# Altium integrated library Scope_evtA.IntLib: 38 symbols
Pins are listed as number, name and electrical type; pins without a type are passive.

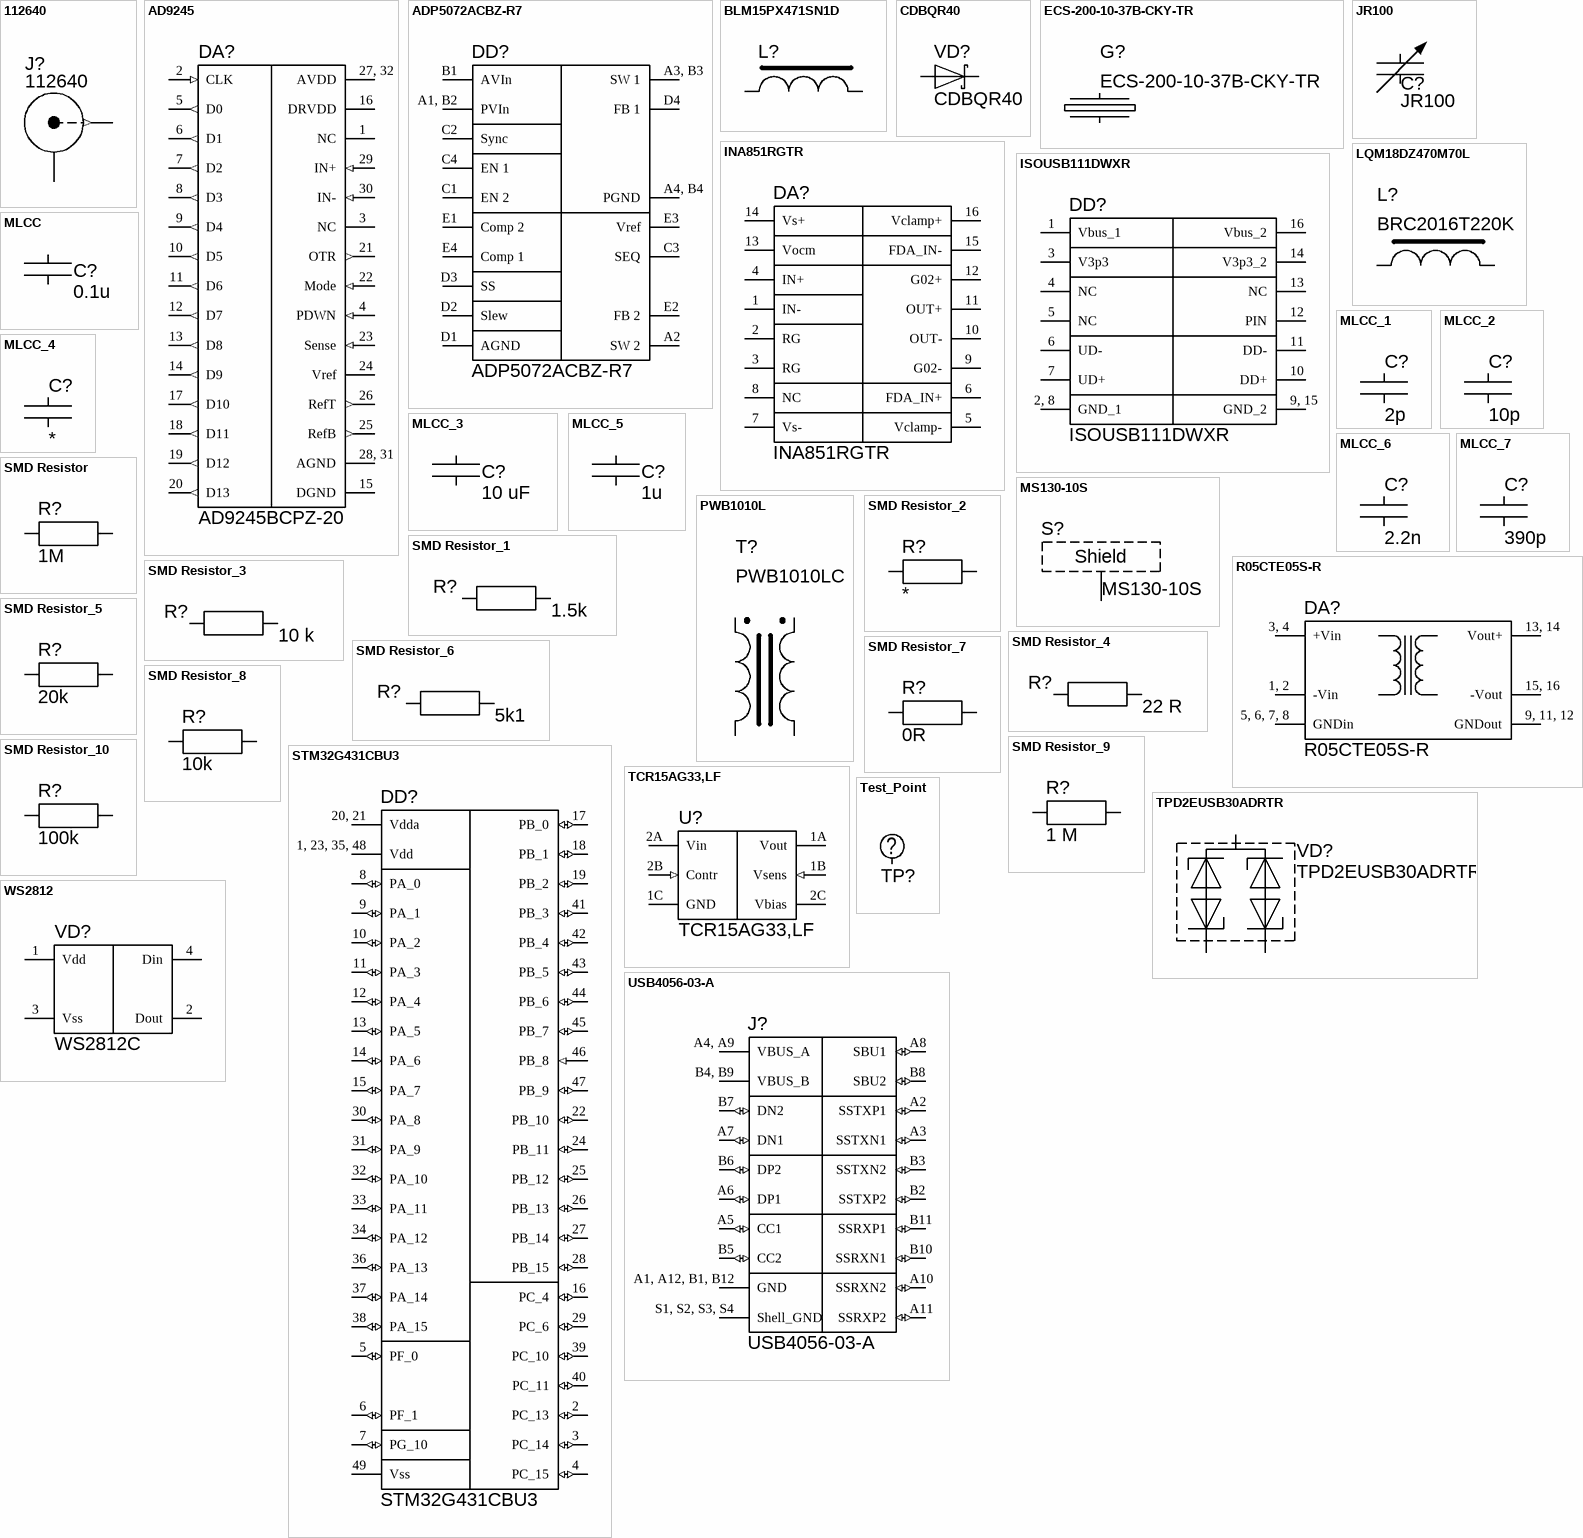
[diagram p0: symbols 112640 to WS2812]

## 112640
designator J?
RF Connectors / Coaxial Connectors BNC PCB END LAUNCH 50 OHM RND BODY; Manufacturer: Amphenol; Value: 50 Ohms; ComponentLink1Description: Datasheet; ComponentLink1URL: https://eu.mouser.com/datasheet/2/18/1/amph_s_a0003617014_1-2261107.pdf; ComponentLink2Description: Link; ComponentLink2URL: https://eu.mouser.com/ProductDetail/Amphenol-RF/112640?qs=g6wJ%252BjiQWOckvE%2FP9L4wAw%3D%3D; P/N: 112640; Case: BNC; Component Type: Jack (Socket)
footprint 112640
pins: 1 In (out), 2 Shield (power)

## AD9245
designator DA?, comment AD9245BCPZ-20
Analog to Digital Converters - ADC 14-Bit, 20 MSPS/40 MSPS/65 MSPS/80 MSPS 3 V A/D Converter; Manufacturer: Analog Devices Inc.; Value: 14 bit,  20 MS/s; ComponentLink1Description: Datasheet; ComponentLink1URL: https://eu.mouser.com/datasheet/2/609/AD9245-3134626.pdf; ComponentLink2Description: Link; ComponentLink2URL: https://eu.mouser.com/ProductDetail/Analog-Devices/AD9245BCPZ-20?qs=%2FtpEQrCGXCyn%2FB%2F5xLQAJw%3D%3D; P/N: AD9245BCPZ-20; Case: LFCSP-32; Component Type: Analog to Digital Converters - ADC
footprint LFCSP-32_AD9245
pins: 1 NC, 2 CLK (in), 3 NC, 4 PDWN (in), 5 D0 (out), 6 D1 (out), 7 D2 (out), 8 D3 (out), 9 D4 (out), 10 D5 (out), 11 D6 (out), 12 D7 (out), 13 D8 (out), 14 D9 (out), 15 DGND (power), 16 DRVDD (power), 17 D10 (out), 18 D11 (out), 19 D12 (out), 20 D13 (out), 21 OTR (out), 22 Mode (in), 23 Sense (in), 24 Vref (power), 25 RefB (out), 26 RefT (out), 27, 32 AVDD (power), 28, 31 AGND (power), 29 IN+ (in), 30 IN- (in)

## ADP5072ACBZ-R7
designator DD?
Switching Voltage Regulators 1 A/0.6 A DC-to-DC Switching Regulator with Independent Positive and Negative Outputs; Manufacturer: Analog Devices Inc.; Value: - 30 V to 35 V; ComponentLink1Description: Datasheet; ComponentLink1URL: https://eu.mouser.com/datasheet/2/609/adp5072-3121366.pdf; ComponentLink2Description: Link; ComponentLink2URL: https://eu.mouser.com/ProductDetail/Analog-Devices/ADP5072ACBZ-R7?qs=w%2Fv1CP2dgqoekXcyqSGVnQ%3D%3D; P/N: ADP5072ACBZ-R7; Case: WLCSP-20; Component Type: Switching Voltage Regulators
footprint WLCSP-20
pins: A1, B2 PVIn, A2 SW 2, A3, B3 SW 1, A4, B4 PGND, B1 AVIn, C1 EN 2, C2 Sync, C3 SEQ, C4 EN 1, D1 AGND, D2 Slew, D3 SS, D4 FB 1, E1 Comp 2, E2 FB 2, E3 Vref, E4 Comp 1

## BLM15PX471SN1D
designator L?  (value not drawn)
Ferrite Beads 470 OHM 25% Alternate Sizing Guide Below; Manufacturer: Murata; Value: 470 Ohms, 1A; ComponentLink1Description: Datasheet; ComponentLink1URL: https://eu.mouser.com/datasheet/2/281/ENFA0018-1915754.pdf; ComponentLink2Description: Link; ComponentLink2URL: https://eu.mouser.com/ProductDetail/Murata-Electronics/BLM15PX471SN1D?qs=eTNEoJdcnEJgxrnv%252BsVZMw%3D%3D; P/N: BLM15PX471SN1D; Case: 0402; Component Type: Ferrite Beads
footprint R0402
pins: 1, 2

## CDBQR40
designator VD?
Schottky Diodes & Rectifiers 200mA 40V DFN Sm. Sgnl. Schottky; Manufacturer: Comchip Technology; Value: 200mA, 40V; ComponentLink1Description: Datasheet; ComponentLink1URL: https://eu.mouser.com/datasheet/2/80/CDBQR40_HF_RevC811666-2488328.pdf; ComponentLink2Description: Link; ComponentLink2URL: https://eu.mouser.com/ProductDetail/Comchip-Technology/CDBQR40?qs=tw%252BuQ%2FB6PO2qnzfzuJamKw%3D%3D; P/N: CDBQR40; Case: 0402; Component Type: Schottky Diodes & Rectifiers
footprint 0402_VD
pins: 1 Out, 2 IN

## ECS-200-10-37B-CKY-TR
designator G?
Crystals 20MHz ESR 70 10pF-30C +85C; Manufacturer: ECS; Value: 20 MHz,  10 PPM; ComponentLink1Description: Datasheet; ComponentLink1URL: https://eu.mouser.com/datasheet/2/122/ECX_1637B-1633271.pdf; ComponentLink2Description: Link; ComponentLink2URL: https://eu.mouser.com/ProductDetail/ECS/ECS-200-10-37B-CKY-TR?qs=l7cgNqFNU1iRTZcEfH9KUQ%3D%3D; P/N: ECS-200-10-37B-CKY-TR; Case: 2 mm x 1.6 mm; Component Type: Crystals
footprint 2 mm x 1.6 mm (ECS-200-10-37B-CKY-TR)
pins: 1, 3

## INA851RGTR
designator DA?
Instrumentation Amplifiers Low-noise (3.2 nV/vHz) high-speed (22 MHz) fully-differential instrumentation amp with OVP (+/-40 V) 16-VQFN -40 to 125; Manufacturer: Texas Instruments; Value: 3.2 nV/vHz. +-40V; ComponentLink1Description: Datasheet; ComponentLink1URL: https://www.ti.com/lit/ds/symlink/ina851.pdf?ts=1707581186124&ref_url=https%253A%252F%252Feu.mouser.com%252F; ComponentLink2Description: Link; ComponentLink2URL: https://eu.mouser.com/ProductDetail/Texas-Instruments/INA851RGTR?qs=Y0Uzf4wQF3kbGQkgMC0HWQ%3D%3D; P/N: INA851RGTR; Case: VQFN-16; Component Type: Instrumentation Amplifiers
footprint VQFN_16_INA851
pins: 1 IN-, 2 RG, 3 RG, 4 IN+, 5 Vclamp-, 6 FDA_IN+, 7 Vs-, 8 NC, 9 G02-, 10 OUT-, 11 OUT+, 12 G02+, 13 Vocm, 14 Vs+, 15 FDA_IN-, 16 Vclamp+

## ISOUSB111DWXR
designator DD?
USB Interface IC Low-emission isolated USB repeater supporting low and full speed 16-SSOP -40 to 125; Manufacturer: Texas Instruments; Value: USB 2.0; ComponentLink1Description: Datasheet; ComponentLink1URL: https://www.ti.com/lit/ds/symlink/isousb111.pdf?ts=1708034758891&ref_url=https%253A%252F%252Fwww.ti.com%252Fproduct%252FISOUSB111; ComponentLink2Description: Link; ComponentLink2URL: https://eu.mouser.com/ProductDetail/Texas-Instruments/ISOUSB111DWXR?qs=Y0Uzf4wQF3msEozH7EwD3g%3D%3D; P/N: ISOUSB111DWXR; Case: SSOP-16; Component Type: USB Interface IC
footprint SSOP-16
pins: 1 Vbus_1, 2, 8 GND_1, 3 V3p3, 4 NC, 5 NC, 6 UD-, 7 UD+, 9, 15 GND_2, 10 DD+, 11 DD-, 12 PIN, 13 NC, 14 V3p3_2, 16 Vbus_2

## JR100
designator C?
Trimmer/Variable Capacitors 2.0 - 10pF 100volts; Manufacturer: Knowles; Value: 2 pF to 10 pF; ComponentLink1Description: Datasheet; ComponentLink1URL: https://eu.mouser.com/datasheet/2/218/Knowles_Trimmers_Catalogue_web-1774092.pdf; ComponentLink2Description: Link; ComponentLink2URL: https://eu.mouser.com/ProductDetail/Knowles-Voltronics/JR100?qs=Xqu1B%2Fs4Uoag80ukOW5org%3D%3D; P/N: JR100; Case: JR; Component Type: Trimmer/Variable Capacitors
footprint Trimmer Capacitors
pins: 1, 2

## LQM18DZ470M70L
designator L?, comment BRC2016T220K
Power Inductors - SMD 0603 47uH 20% 180mA 3.32ohm AEC-Q200; ComponentLink1Description: Datasheet; ComponentLink1URL: https://eu.mouser.com/datasheet/2/281/1/JELF243B_9128-3158890.pdf; ComponentLink2Description: Link; ComponentLink2URL: https://eu.mouser.com/ProductDetail/Murata-Electronics/LQM18DZ470M70L?qs=aP1CjGhiNiGa4GC35xm0xg%3D%3D; P/N: BRC2016T220K; Case: 0603; Component Type: Power Inductors - SMD
footprint L0603
pins: 1, 2

## MLCC
designator C?, comment 0.1u
Multilayer Ceramic Capacitors MLCC - SMD/SMT 0.1 uF 50 VDC 20% 0402 X6S; Manufacturer: Murata; P/N: GRM155C81H104ME14D; Component Type: MLCC; Case: 0402; ComponentLink1Description: Link; ComponentLink1URL: *; ComponentLink2Description: Datasheet; ComponentLink2URL: *; Value: 0.1u
footprint C0603 (*)
footprint C0402 (Chip Capacitor, Body 1.0x0.5mm, IPC High Density)
pins: 1, 2

## MLCC_1
designator C?, comment 2p
Multilayer Ceramic Capacitors MLCC - SMD/SMT 50V 10pF X7R 0402 10%; Manufacturer: KEMET; P/N: C0402C100K5RACTU; Component Type: MLCC; Case: 0402; ComponentLink1Description: Link; ComponentLink1URL: https://eu.mouser.com/ProductDetail/KEMET/C0402C100K5RACTU?qs=Mv7BduZupUgEdPvwNAxLRQ%3D%3D; ComponentLink2Description: Datasheet; ComponentLink2URL: https://eu.mouser.com/datasheet/2/447/KEM_C1002_X7R_SMD-3316098.pdf; Value: 2p
footprint C0603 (*)
footprint C0402 (Chip Capacitor, Body 1.0x0.5mm, IPC High Density)
pins: 1, 2

## MLCC_2
designator C?, comment 10p
Multilayer Ceramic Capacitors MLCC - SMD/SMT 50V 10pF X7R 0402 10%; Manufacturer: KEMET; P/N: C0402C100K5RACTU; Component Type: MLCC; Case: 0402; ComponentLink1Description: Link; ComponentLink1URL: https://eu.mouser.com/ProductDetail/KEMET/C0402C100K5RACTU?qs=Mv7BduZupUgEdPvwNAxLRQ%3D%3D; ComponentLink2Description: Datasheet; ComponentLink2URL: https://eu.mouser.com/datasheet/2/447/KEM_C1002_X7R_SMD-3316098.pdf; Value: 10p
footprint C0603 (*)
footprint C0402 (Chip Capacitor, Body 1.0x0.5mm, IPC High Density)
pins: 1, 2

## MLCC_3
designator C?, comment 10 uF
Multilayer Ceramic Capacitors MLCC - SMD/SMT 10 uF 10 VDC 20% 0402 X5R; Manufacturer: Murata; P/N: GRM155R61A106ME11D; Component Type: MLCC; Case: 0402; ComponentLink1Description: Link; ComponentLink1URL: https://eu.mouser.com/ProductDetail/Murata-Electronics/GRM155R61A106ME11D?qs=xZ%2FP%252Ba9zWqZMJSi57Q8OyA%3D%3D; ComponentLink2Description: Datasheet; ComponentLink2URL: https://eu.mouser.com/datasheet/2/281/1/GRM155R61A106ME11_01A-1983731.pdf; Value: 10 uF
footprint C0603 (*)
footprint C0402 (Chip Capacitor, Body 1.0x0.5mm, IPC High Density)
pins: 1, 2

## MLCC_4
designator C?
Cercap smd; P/N: *; Component Type: *; Manufacturer: *; Case: *; ComponentLink1Description: Link; ComponentLink1URL: *; ComponentLink2Description: Datasheet; ComponentLink2URL: *; Value: *
footprint C0603 (*)
footprint C0402 (Chip Capacitor, Body 1.0x0.5mm, IPC High Density)
pins: 1, 2

## MLCC_5
designator C?, comment 1u
Multilayer Ceramic Capacitors MLCC - SMD/SMT 1 uF 10 VDC 20% 0402 X7S AEC-Q200; Manufacturer: Murata; P/N: GCM155C71A105ME38D; Component Type: MLCC; Case: 0402; ComponentLink1Description: Link; ComponentLink1URL: https://eu.mouser.com/ProductDetail/Murata-Electronics/GCM155C71A105ME38D?qs=QzBtWTOodeV5ddl%2FvWs3LA%3D%3D; ComponentLink2Description: Datasheet; ComponentLink2URL: https://eu.mouser.com/datasheet/2/281/1/GCM155C71A105ME38_01A-3142248.pdf; Value: 1u
footprint C0603 (*)
footprint C0402 (Chip Capacitor, Body 1.0x0.5mm, IPC High Density)
pins: 1, 2

## MLCC_6
designator C?, comment 2.2n
Multilayer Ceramic Capacitors MLCC - SMD/SMT 0.1 uF 50 VDC 20% 0402 X6S; Manufacturer: Murata; P/N: GRM155C81H104ME14D; Component Type: MLCC; Case: 0402; ComponentLink1Description: Link; ComponentLink1URL: *; ComponentLink2Description: Datasheet; ComponentLink2URL: *; Value: 2.2n
footprint C0603 (*)
footprint C0402 (Chip Capacitor, Body 1.0x0.5mm, IPC High Density)
pins: 1, 2

## MLCC_7
designator C?, comment 390p
Multilayer Ceramic Capacitors MLCC - SMD/SMT 0.1 uF 50 VDC 20% 0402 X6S; Manufacturer: Murata; P/N: GRM155C81H104ME14D; Component Type: MLCC; Case: 0402; ComponentLink1Description: Link; ComponentLink1URL: *; ComponentLink2Description: Datasheet; ComponentLink2URL: *; Value: 390p
footprint C0603 (*)
footprint C0402 (Chip Capacitor, Body 1.0x0.5mm, IPC High Density)
pins: 1, 2

## MS130-10S
designator S?
EMI Gaskets, Sheets, Absorbers & Shielding 13 x 13 x 5mm One-piece Drawn-Seamless RF Shield/EMI Shield (CRS); Manufacturer: Masach Tech; ComponentLink1Description: Datasheet; ComponentLink1URL: https://api.masach.com/media/catalog/product/file/MS128-10.pdf; ComponentLink2Description: Link; ComponentLink2URL: https://eu.mouser.com/ProductDetail/Masach/MS130-10S?qs=pUKx8fyJudDNyG0ZPUxt%2FA%3D%3D; Value: 13 x 13 x 5mm; P/N: MS130-10S; Case: 13 x 13 x 5mm; Component Type: Shields
footprint 13_13_5mm
pins: 1
text: Shield

## PWB1010L
designator T?, comment PWB1010LC
Audio Transformers / Signal Transformers PWB Wideband RF 1:1 0.0035-125 MHz; Manufacturer: Coilcraft; Value: 3.5 kHz to 125 MHz; ComponentLink1Description: Datasheet; ComponentLink1URL: https://eu.mouser.com/datasheet/2/597/pwb-463529.pdf; ComponentLink2Description: Link; ComponentLink2URL: https://eu.mouser.com/ProductDetail/Coilcraft/PWB1010LC?qs=ZYnrCdKdyeesEVMGru6ImA%3D%3D; P/N: PWB1010LC
footprint PWB1010
pins: 1, 3, 4, 6

## R05CTE05S-R
designator DA?
Isolated DC/DC Converters - SMD 1W 4.5-5.5Vin 5.0Vout 200mA Reel; Manufacturer: RECOM; Value: 1 W, 5V; ComponentLink1Description: Datasheet; ComponentLink1URL: https://eu.mouser.com/datasheet/2/468/RxxCTExxS-3179767.pdf; ComponentLink2Description: Link; ComponentLink2URL: https://eu.mouser.com/ProductDetail/RECOM-Power/R05CTE05S-R?qs=7D1LtPJG0i0SUCKLd%252BnSSQ%3D%3D; P/N: R05CTE05S-R; Case: SOIC-16; Component Type: Isolated DC/DC Converters - SMD
footprint SOIC-16
pins: 1, 2 -Vin, 3, 4 +Vin, 5, 6, 7, 8 GNDin, 9, 11, 12 GNDout, 13, 14 Vout+, 15, 16 -Vout

## SMD Resistor
designator R?, comment 1M
Res SMD; ComponentLink1Description: Datasheet; ComponentLink1URL: *; ComponentLink2Description: Link; ComponentLink2URL: *; Value: 1M; P/N: *; Manufacturer: *; Case: *; Component Type: *
footprint R0402 (×èï ðåçèñòîð; Ðàçìåð 1 x 0.5 ìì (Ä x Ø))
footprint R0603 (*)
footprint R0805
pins: 1, 2

## SMD Resistor_1
designator R?, comment 1.5k
Thick Film Resistors - SMD 0402 1K0 0.5%; ComponentLink1Description: Datasheet; ComponentLink1URL: https://eu.mouser.com/datasheet/2/210/kamaya_products_RGC__english_20170424_101024-1651573.pdf; ComponentLink2Description: Link; ComponentLink2URL: https://eu.mouser.com/ProductDetail/Kamaya/RGC1-16SC1001DTH?qs=KAq9QXcE8HAz3iV8i32W5A%3D%3D; Value: 1.5k; Case: 0402
footprint R0402 (×èï ðåçèñòîð; Ðàçìåð 1 x 0.5 ìì (Ä x Ø))
footprint R0603 (*)
pins: 1, 2

## SMD Resistor_2
designator R?
Res SMD; ComponentLink1Description: Datasheet; ComponentLink1URL: *; ComponentLink2Description: Link; ComponentLink2URL: *; Value: *; P/N: *; Manufacturer: *; Case: *; Component Type: *
footprint R0402 (×èï ðåçèñòîð; Ðàçìåð 1 x 0.5 ìì (Ä x Ø))
footprint R0603 (*)
footprint R0805
pins: 1, 2

## SMD Resistor_3
designator R?, comment 10 k
Thick Film Resistors - SMD 0402 10Kohms 0.5%AEC-Q200; Manufacturer: Panasonic; P/N: ERJ-2RHD103X; ComponentLink1Description: Datasheet; ComponentLink1URL: https://eu.mouser.com/datasheet/2/315/AOA0000C304-1149620.pdf; ComponentLink2Description: Link; ComponentLink2URL: https://eu.mouser.com/ProductDetail/Panasonic/ERJ-2RKF2202X?qs=sGAEpiMZZMvdGkrng054t8AJgcdMkx7xGCv6QlnvaAM%3D; Value: 10 k; Case: 0402
footprint R0402 (×èï ðåçèñòîð; Ðàçìåð 1 x 0.5 ìì (Ä x Ø))
footprint R0603 (*)
pins: 1, 2

## SMD Resistor_4
designator R?, comment 22 R
Res SMD; Manufacturer: Panasonic; P/N: ERJ-2GEJ220X; ComponentLink1Description: Datasheet; ComponentLink1URL: *; ComponentLink2Description: Link; ComponentLink2URL: *; Value: 22 R; Case: 0402
footprint R0402 (×èï ðåçèñòîð; Ðàçìåð 1 x 0.5 ìì (Ä x Ø))
footprint R0603 (*)
pins: 1, 2

## SMD Resistor_5
designator R?, comment 20k
Thick Film Resistors - SMD 0402 1K0 0.5%; ComponentLink1Description: Datasheet; ComponentLink1URL: https://eu.mouser.com/datasheet/2/210/kamaya_products_RGC__english_20170424_101024-1651573.pdf; ComponentLink2Description: Link; ComponentLink2URL: https://eu.mouser.com/ProductDetail/Kamaya/RGC1-16SC1001DTH?qs=KAq9QXcE8HAz3iV8i32W5A%3D%3D; Value: 20k; Case: 0402
footprint R0402 (×èï ðåçèñòîð; Ðàçìåð 1 x 0.5 ìì (Ä x Ø))
footprint R0603 (*)
pins: 1, 2

## SMD Resistor_6
designator R?, comment 5k1
Thick Film Resistors - SMD 0402 10Kohms 0.5%AEC-Q200; Manufacturer: Panasonic; P/N: ERJ-2RHD103X; ComponentLink1Description: Datasheet; ComponentLink1URL: https://eu.mouser.com/datasheet/2/315/AOA0000C304-1149620.pdf; ComponentLink2Description: Link; ComponentLink2URL: https://eu.mouser.com/ProductDetail/Panasonic/ERJ-2RKF2202X?qs=sGAEpiMZZMvdGkrng054t8AJgcdMkx7xGCv6QlnvaAM%3D; Value: 5k1; Case: 0402
footprint R0402 (×èï ðåçèñòîð; Ðàçìåð 1 x 0.5 ìì (Ä x Ø))
footprint R0603 (*)
pins: 1, 2

## SMD Resistor_7
designator R?, comment 0R
Res SMD; ComponentLink1Description: Datasheet; ComponentLink1URL: *; ComponentLink2Description: Link; ComponentLink2URL: *; Value: 0R; P/N: *; Manufacturer: *; Case: *; Component Type: *
footprint R0402 (×èï ðåçèñòîð; Ðàçìåð 1 x 0.5 ìì (Ä x Ø))
footprint R0603 (*)
footprint R0805
pins: 1, 2

## SMD Resistor_8
designator R?, comment 10k
Thick Film Resistors - SMD 0402 1K0 0.5%; ComponentLink1Description: Datasheet; ComponentLink1URL: https://eu.mouser.com/datasheet/2/210/kamaya_products_RGC__english_20170424_101024-1651573.pdf; ComponentLink2Description: Link; ComponentLink2URL: https://eu.mouser.com/ProductDetail/Kamaya/RGC1-16SC1001DTH?qs=KAq9QXcE8HAz3iV8i32W5A%3D%3D; Value: 10k; Case: 0402
footprint R0402 (×èï ðåçèñòîð; Ðàçìåð 1 x 0.5 ìì (Ä x Ø))
footprint R0603 (*)
pins: 1, 2

## SMD Resistor_9
designator R?, comment 1 M
Thick Film Resistors 0402 5% 1.0Mohm Anti-Sulfur AEC-Q200; Manufacturer: Panasonic; P/N: ERJ-U02J105X; ComponentLink1Description: Datasheet; ComponentLink1URL: https://eu.mouser.com/datasheet/2/315/AOA0000C334-1314047.pdf; ComponentLink2Description: Link; ComponentLink2URL: https://eu.mouser.com/ProductDetail/Panasonic/ERJ-U02J105X?qs=sGAEpiMZZMvdGkrng054txgTq5MjvbWt4CoE%2F2ATr1A%3D; Value: 1 M; Case: 0402
footprint R0402 (×èï ðåçèñòîð; Ðàçìåð 1 x 0.5 ìì (Ä x Ø))
footprint R0603 (*)
pins: 1, 2

## SMD Resistor_10
designator R?, comment 100k
Thick Film Resistors - SMD 0402 10Kohms 0.5%AEC-Q200; ComponentLink1Description: Datasheet; ComponentLink2Description: Link; Value: 100k; Case: 0402
footprint R0402 (×èï ðåçèñòîð; Ðàçìåð 1 x 0.5 ìì (Ä x Ø))
footprint R0603 (*)
pins: 1, 2

## STM32G431CBU3
designator DD?
ARM Microcontrollers - MCU Mainstream Arm Cortex-M4 MCU 170 MHz 128 Kbytes of Flash Math Accel, Medium Anal; Manufacturer: STMicroelectronics; Value: 170 MHz; ComponentLink1Description: Datasheet; ComponentLink1URL: https://eu.mouser.com/datasheet/2/389/stm32g431c6-1600866.pdf; ComponentLink2Description: Link; ComponentLink2URL: https://eu.mouser.com/ProductDetail/STMicroelectronics/STM32G431CBU3?qs=PzGy0jfpSMuhNWEWgwfZ0w%3D%3D; P/N: STM32G431CBU3; Case: UFQFPN-48; Component Type: ARM Microcontrollers - MCU
footprint UFQFPN-48
pins: 1, 23, 35, 48 Vdd (power), 2 PC_13 (io), 3 PC_14 (io), 4 PC_15 (io), 5 PF_0 (io), 6 PF_1 (io), 7 PG_10 (io), 8 PA_0 (io), 9 PA_1 (io), 10 PA_2 (io), 11 PA_3 (io), 12 PA_4 (io), 13 PA_5 (io), 14 PA_6 (io), 15 PA_7 (io), 16 PC_4 (io), 17 PB_0 (io), 18 PB_1 (io), 19 PB_2 (io), 20, 21 Vdda (power), 22 PB_10 (io), 24 PB_11 (io), 25 PB_12 (io), 26 PB_13 (io), 27 PB_14 (io), 28 PB_15 (io), 29 PC_6 (io), 30 PA_8 (io), 31 PA_9 (io), 32 PA_10 (io), 33 PA_11 (io), 34 PA_12 (io), 36 PA_13 (io), 37 PA_14 (io), 38 PA_15 (io), 39 PC_10 (io), 40 PC_11 (io), 41 PB_3 (io), 42 PB_4 (io), 43 PB_5 (io), 44 PB_6 (io), 45 PB_7 (io), 46 PB_8 (in), 47 PB_9 (io), 49 Vss (power)

## TCR15AG33,LF
designator U?
LDO Voltage Regulators LDO Linear Voltage Regulator 1.5A 3.3V; Manufacturer: Toshiba; Value: 3V3, 1.5A; ComponentLink1Description: Datasheet; ComponentLink1URL: https://eu.mouser.com/datasheet/2/408/TCR15AG33_datasheet_en_20230824-1916466.pdf; ComponentLink2Description: Link; ComponentLink2URL: https://eu.mouser.com/ProductDetail/Toshiba/TCR15AG33LF?qs=W0yvOO0ixfEdwQi51FhISQ%3D%3D; P/N: TCR15AG33,LF; Case: WCSP-6F-6; Component Type: LDO Voltage Regulators
footprint WCSP-6F-6
pins: 1A Vout (power), 1B Vsens (in), 1C GND (power), 2A Vin (power), 2B Contr (in), 2C Vbias (power)

## Test_Point
designator TP?, comment 5117  (value not drawn)
PCB TEST POINT BLUE; Manufacturer: Keystone Electronics; Value: 36-5117; Case: THT; Component Type: Test point; ComponentLink1Description: Datasheet; ComponentLink1URL: https://ru.mouser.com/datasheet/2/215/5115_5119-744073.pdf; ComponentLink2Description: Link; ComponentLink2URL: https://ru.mouser.com/ProductDetail/Keystone-Electronics/5117?qs=%2Fha2pyFadujSuVybhyFc6oqj%252BXCGMBBx2uPmIz4OBqU%3D; P/N: 5117
footprint Test_point
footprint 36-5117-ND (Test Point)
footprint Micro_test_pad
footprint Pogo Pin 0,6mm
pins: 1
text: ?

## TPD2EUSB30ADRTR
designator VD?
ESD Suppressors / TVS Diodes 2 Channel ESD/ Surge Solution; Manufacturer: Texas Instruments; Value: 2 Channel, 4.5 V; ComponentLink1Description: Datasheet; ComponentLink1URL: https://www.ti.com/lit/ds/symlink/tpd2eusb30.pdf?ts=1708175608995&ref_url=https%253A%252F%252Feu.mouser.com%252F; ComponentLink2Description: Link; ComponentLink2URL: https://eu.mouser.com/ProductDetail/Texas-Instruments/TPD2EUSB30ADRTR?qs=O1HRStiETCgOfMa6oTfOlg%3D%3D; P/N: TPD2EUSB30ADRTR; Case: SOT-9X3; Component Type: ESD Suppressors / TVS Diodes
footprint SOT-9X3
pins: 1, 2, 3

## USB4056-03-A
designator J?
USB Connectors USB C 3.2 Rec, Horz, Hybrid PCB Top Mount, T+R; Manufacturer: Global Connector Technology (GCT); Value: 3.2; ComponentLink1Description: Datasheet; ComponentLink1URL: https://eu.mouser.com/datasheet/2/837/GCT_06232023_USB4056-3223375.pdf; ComponentLink2Description: Link; ComponentLink2URL: https://eu.mouser.com/ProductDetail/GCT/USB4056-03-A?qs=QNEnbhJQKvbZ7hZzgFEugA%3D%3D; P/N: USB4056-03-A; Case: Type C 24 pin; Component Type: Type C 24 pin
footprint USB 3.2 Gen 2
pins: A1, A12, B1, B12 GND (power), A2 SSTXP1 (io), A3 SSTXN1 (io), A4, A9 VBUS_A (power), A5 CC1 (io), A6 DP1 (io), A7 DN1 (io), A8 SBU1 (io), A10 SSRXN2 (io), A11 SSRXP2 (io), B2 SSTXP2 (io), B3 SSTXN2 (io), B4, B9 VBUS_B (power), B5 CC2 (io), B6 DP2 (io), B7 DN2 (io), B8 SBU2 (io), B10 SSRXN1 (io), B11 SSRXP1 (io), S1, S2, S3, S4 Shell_GND (power)

## WS2812
designator VD?, comment WS2812C
RGB SMD5050 Light Emitting Diodes (LED) ROHS; Manufacturer: Worldsemi; ComponentLink1Description: Datasheet; ComponentLink1URL: https://datasheet.lcsc.com/lcsc/1810231210_Worldsemi-WS2812C_C114587.pdf; ComponentLink2Description: Link; ComponentLink2URL: https://www.lcsc.com/product-detail/Light-Emitting-Diodes-LED_Worldsemi-WS2812C_C114587.html; P/N: WS2812C; Value: RGB; Case: SMD5050; Component Type: RGB LED
footprint SMD5050
pins: 1 Vdd, 2 Dout, 3 Vss, 4 Din